# EAGLE library part 50075-008 (library kotuku)
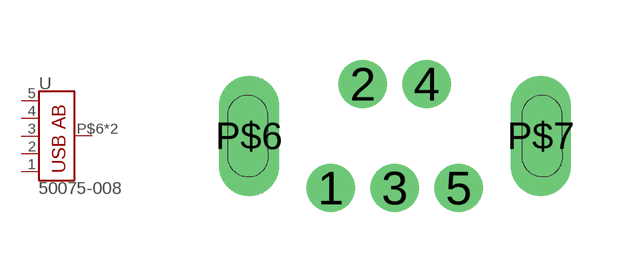
[diagram p22: symbol with the pads of 500075-008; footprint 500075-008]

Designator prefix -

## 50075-008  [500075-008]
1  VBUS  pwr
2  D-
3  D+
4  USBID
5  GND  pwr
P$6  SHIELD
P$7  SHIELD

## Footprint 500075-008 (pad centres in mm)
drill 0.7: 1 -1.6,-1.3; 2 -0.8,1.3; 3 0,-1.3; 4 0.8,1.3; 5 1.6,-1.3
drill 1 long: P$6 -3.65,0; P$7 3.65,0